# EAGLE library part MAX2235* (library maxim-8)
+3.6V, 1W Autoramping Power Amplifier for 900MHz Applications
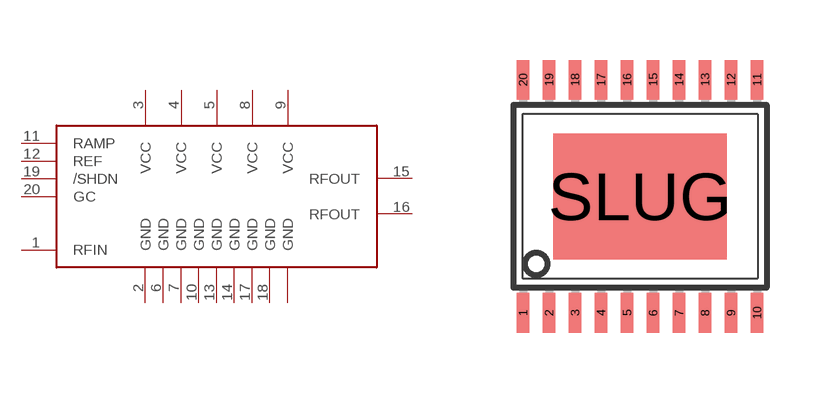
[diagram p386: symbol with the pads of TSSOP20_SLUG; footprint TSSOP20_SLUG]

Designator prefix IC

## MAX2235EUP  [TSSOP20_SLUG]
1  RFIN  in
2  GND  pwr
3  VCC  pwr
4  VCC  pwr
5  VCC  pwr
6  GND  pwr
7  GND  pwr
8  VCC  pwr
9  VCC  pwr
10  GND  pwr
11  RAMP  in
12  REF  out
13  GND  pwr
14  GND  pwr
15  RFOUT  out
16  RFOUT  out
17  GND  pwr
18  GND  pwr
19  /SHDN  in
20  GC  in
SLUG  GND  pwr

## Footprint TSSOP20_SLUG (pad centres in mm)
Thin Shrink Small Outline Plastic 20 with Heat Slug
smd 0.305 x 0.991: 1 -2.925,-2.918; 2 -2.275,-2.918; 3 -1.625,-2.918; 4 -0.975,-2.918; 5 -0.325,-2.918; 6 0.325,-2.918; 7 0.975,-2.918; 8 1.625,-2.918; 9 2.275,-2.918; 10 2.925,-2.918; 11 2.925,2.918; 12 2.275,2.918; 13 1.625,2.918; 14 0.975,2.918; 15 0.325,2.918; 16 -0.325,2.918; 17 -0.975,2.918; 18 -1.625,2.918; 19 -2.275,2.918; 20 -2.925,2.918
smd 4.34 x 3.15: SLUG 0,0